# EAGLE library part LM5113 (library MotorDriver)
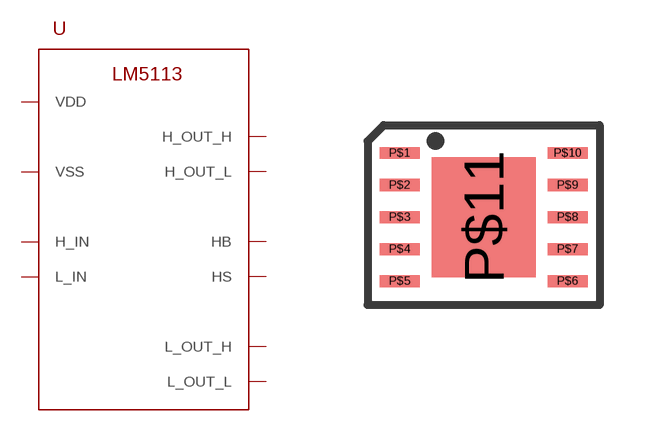
[diagram p2: symbol with the pads of WSON-10; footprint WSON-10]

Designator prefix U

## LM5113/WSON-10  [WSON-10]
P$1  VDD
P$2  HB
P$3  H_OUT_H
P$4  H_OUT_L
P$5  HS
P$6  H_IN
P$7  L_IN
P$8  VSS
P$9  L_OUT_L
P$10  L_OUT_H
P$11  VSS

## Footprint WSON-10 (pad centres in mm)
smd 1 x 0.3: P$1 -2.1,1.6; P$2 -2.1,0.8; P$3 -2.1,0; P$4 -2.1,-0.8; P$5 -2.1,-1.6; P$6 2.1,-1.6; P$7 2.1,-0.8; P$8 2.1,0; P$9 2.1,0.8; P$10 2.1,1.6
smd 2.6 x 3: P$11 0,0